# EAGLE library part HDR-1X6 (library con-hdrs40)
HEADER CONNECTOR
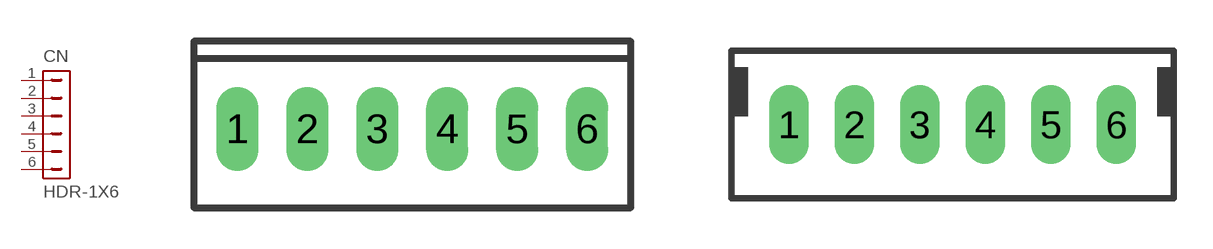
[diagram p0: symbol with the pads of MTA-100-6V; footprints MTA-100-6V, MTE-100-6V]

Designator prefix CN

## HDR-1X6-MTA-100  [MTA-100-6V]
1  1  pas
2  2  pas
3  3  pas
4  4  pas
5  5  pas
6  6  pas

## HDR-1X6-MTE-100  [MTE-100-6V]
Pads as for MTA-100-6V

## HDR-1X6-MTE-100-L  [MTE-100-6VL]
Pads as for MTA-100-6V

## HDR-1X6-SIP-100  [SIP-100-6V]
Pads as for MTA-100-6V

## HDR-1X6-15-91-?  [15-91-06]
Pads as for MTA-100-6V

## HDR-1X6-70543-?  [70543-06]
Pads as for MTA-100-6V

## HDR-1X6-70553-?  [70553-06]
Pads as for MTA-100-6V

## HDR-1X6-FH21-6  [FH21-6]
Pads as for MTA-100-6V

## Footprint MTA-100-6V (pad centres in mm)
AMP MTA Vertical .100" 6 pin
drill 1.016 long: 1 -6.35,0; 2 -3.81,0; 3 -1.27,0; 4 1.27,0; 5 3.81,0; 6 6.35,0

## Footprint MTE-100-6V (pad centres in mm)
AMP MTE Vertical .100" 6 pin
drill 1.016 long: 1 -6.35,0; 2 -3.81,0; 3 -1.27,0; 4 1.27,0; 5 3.81,0; 6 6.35,0

## Footprint MTE-100-6VL (pad centres in mm)
AMP MTE Vertical .100" 6 pin w/latch
drill 1.016 long: 1 -6.35,0; 2 -3.81,0; 3 -1.27,0; 4 1.27,0; 5 3.81,0; 6 6.35,0

## Footprint SIP-100-6V (pad centres in mm)
SIP Header Vertical 100" 6 pin
drill 1.016 long: 1 -6.35,0; 2 -3.81,0; 3 -1.27,0; 4 1.27,0; 5 3.81,0; 6 6.35,0

## Footprint 15-91-06 (pad centres in mm)
Molex C-Grid SL Connector right angle SMD, 6 pin
smd 1.651 x 5.334: 1 -6.35,-10.795; 2 -3.81,-10.795; 3 -1.27,-10.795; 4 1.27,-10.795; 5 3.81,-10.795; 6 6.35,-10.795
hole 3.404 at -7.747,0.838
hole 3.404 at 7.747,0.838

## Footprint 70543-06 (pad centres in mm)
Molex C-Grid SL Connector vertical, 6 pin
drill 1.016 long: 1 -6.35,0; 2 -3.81,0; 3 -1.27,0; 4 1.27,0; 5 3.81,0; 6 6.35,0

## Footprint 70553-06 (pad centres in mm)
Molex C-Grid SL Connector right angle, 6 pin
drill 1.092 long: 1 -6.35,-7.62; 2 -3.81,-7.62; 3 -1.27,-7.62; 4 1.27,-7.62; 5 3.81,-7.62; 6 6.35,-7.62

## Footprint FH21-6 (pad centres in mm)
Hirose FH21 1 MM Flex Connector right angle, 6 pin,
drill 0.813 square: 1 -3,-1
drill 0.813 round: 2 -2,1; 3 -1,-1; 4 0,1; 5 1,-1; 6 2,1